# Altium footprint library TI Logic Gate.PcbLib: 60 footprints (part 4 of 4)
Each footprint in its own frame and in the unit in brackets; x right, y up, seen from the top. Pads: shape width x height; smd on the part's side, far side on the other; paste and mask are expansions set on the pad; w line width, h text height; cw(c..) or ccw(c..) is an arc to the next point about the centre after c.
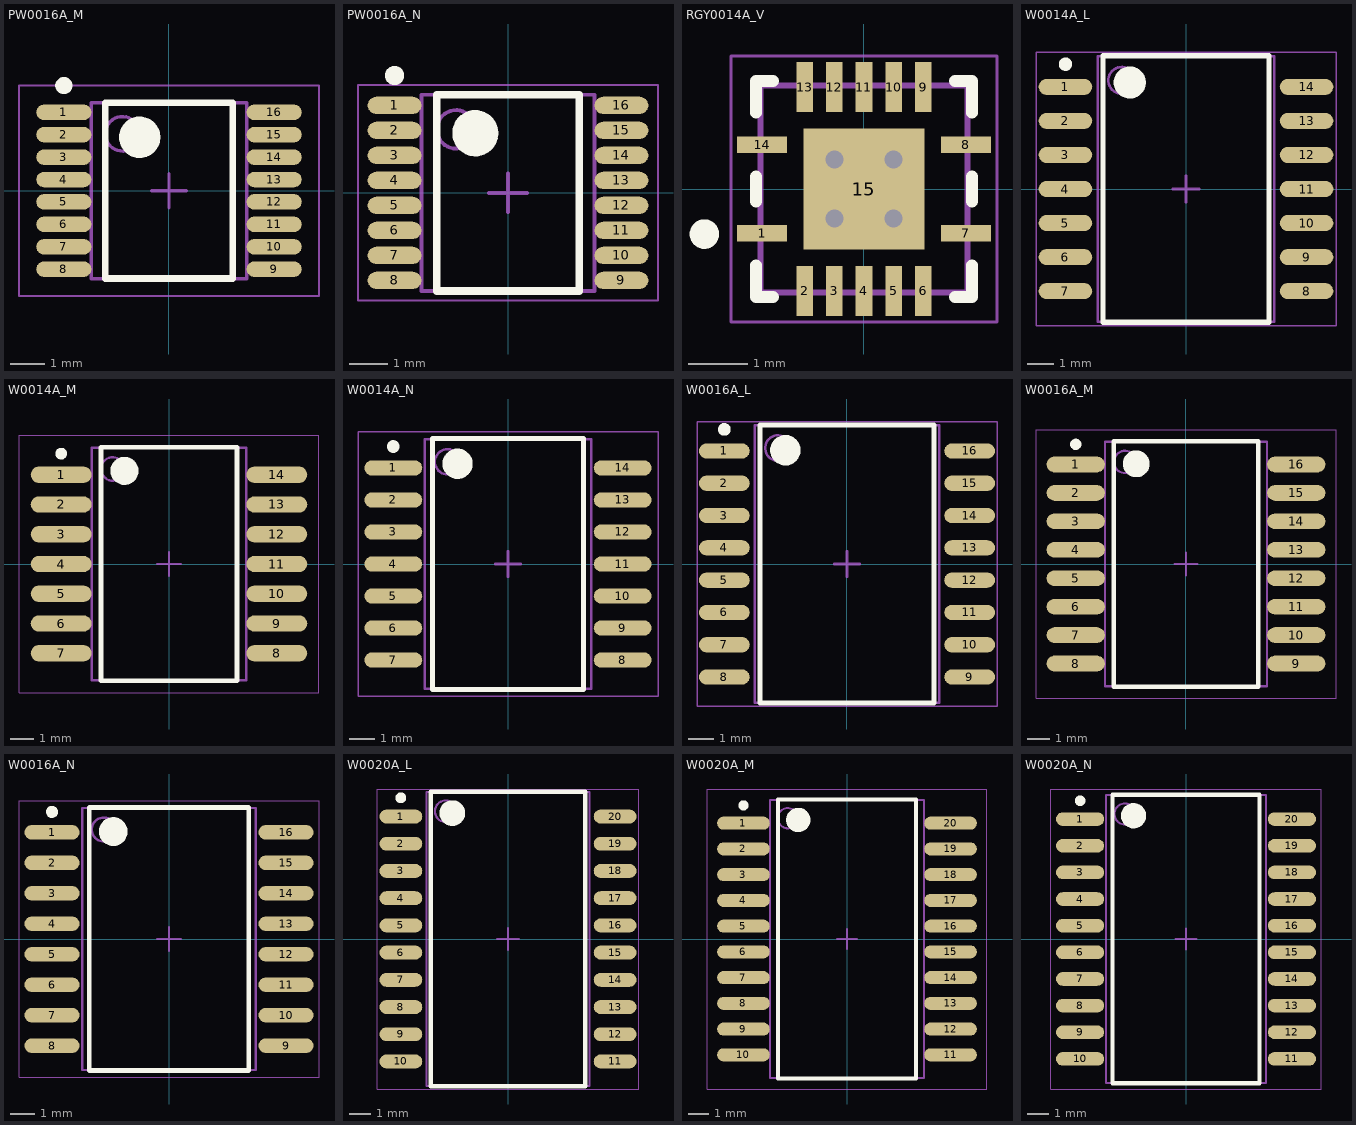
[diagram p3: the footprints below, top view; thin cyan lines are the x and y axes]

## PW0016A_M [mm] "SOP, 16-Leads, Body 5.1x4.5mm, Pitch 0.65mm, IPC Low Density"
height 1.2
pads (16):
  oval 1.6x0.45 smd: 1(-3.05,2.275) 2(-3.05,1.625) 3(-3.05,0.975) 4(-3.05,0.325) 5(-3.05,-0.325) 6(-3.05,-0.975) 7(-3.05,-1.625) 8(-3.05,-2.275) 9(3.05,-2.275) 10(3.05,-1.625) 11(3.05,-0.975) 12(3.05,-0.325) 13(3.05,0.325) 14(3.05,0.975) 15(3.05,1.625) 16(3.05,2.275)
Top Overlay:
  circle w0.6: c-0.85,1.55 r0.3
  circle w0.25: c-3.05,3.05 r0.125
  lines w0.2: -1.85,-2.55 1.85,-2.55 1.85,2.55 -1.85,2.55 -1.85,-2.55
Mechanical 13:
  circle w0.1: c-1.35,1.65 r0.5
  lines w0.1: -2.25,-2.55 2.25,-2.55 2.25,2.55 -2.25,2.55 -2.25,-2.55
Mechanical 15:
  lines w0.05: -4.35,-3.05 4.35,-3.05 4.35,3.05 -4.35,3.05 -4.35,-3.05
  lines w0.1: -0.5,0 0.5,0 ; 0,-0.5 0,0.5
3D body "PW0016AakaMTC16.stp": height 1.2, standoff 0, extent -3.21,-2.5 3.21,2.5

## PW0016A_N [mm] "SOP, 16-Leads, Body 5.1x4.5mm, Pitch 0.65mm, IPC Medium Density"
height 1.2
pads (16):
  oval 1.4x0.45 smd: 1(-2.95,2.275) 2(-2.95,1.625) 3(-2.95,0.975) 4(-2.95,0.325) 5(-2.95,-0.325) 6(-2.95,-0.975) 7(-2.95,-1.625) 8(-2.95,-2.275) 9(2.95,-2.275) 10(2.95,-1.625) 11(2.95,-0.975) 12(2.95,-0.325) 13(2.95,0.325) 14(2.95,0.975) 15(2.95,1.625) 16(2.95,2.275)
Top Overlay:
  circle w0.6: c-0.85,1.55 r0.3
  circle w0.25: c-2.95,3.05 r0.125
  lines w0.2: -1.85,-2.55 1.85,-2.55 1.85,2.55 -1.85,2.55 -1.85,-2.55
Mechanical 13:
  circle w0.1: c-1.35,1.65 r0.5
  lines w0.1: -2.25,-2.55 2.25,-2.55 2.25,2.55 -2.25,2.55 -2.25,-2.55
Mechanical 15:
  lines w0.05: -3.9,-2.8 3.9,-2.8 3.9,2.8 -3.9,2.8 -3.9,-2.8
  lines w0.1: -0.5,0 0.5,0 ; 0,-0.5 0,0.5
3D body "PW0016AakaMTC16.stp": height 1.2, standoff 0, extent -3.21,-2.5 3.21,2.5

## RGY0014A_V [mm] "QFN, 14-Leads, Body 3.5x3.5mm, Thermal Pad 2.05x2.05mm, TI Recommend"
height 1
pads (15):
  rect 0.85x0.28 smd paste-0.85 mask+0.07: 1(-1.725,-0.75) 7(1.725,-0.75) 8(1.725,0.75) 14(-1.725,0.75)
  rect 0.28x0.85 smd paste-0.85 mask+0.07: 2(-1,-1.725) 3(-0.5,-1.725) 4(0,-1.725) 5(0.5,-1.725) 6(1,-1.725) 9(1,1.725) 10(0.5,1.725) 11(0,1.725) 12(-0.5,1.725) 13(-1,1.725)
  rect 2.05x2.05 smd paste-2.05 mask+0.07: 15(0,0)
via 0.5,-0.5 diameter 0.5 hole 0.3
via 0.5,0.5 diameter 0.5 hole 0.3
via -0.5,0.5 diameter 0.5 hole 0.3
via -0.5,-0.5 diameter 0.5 hole 0.3
Top Overlay:
  circle w0.25: c-2.7,-0.762 r0.125
  lines w0.2: -1.825,-1.29 -1.825,-1.825 -1.54,-1.825 ; -1.825,-0.21 -1.825,0.21 ; -1.825,1.29 -1.825,1.825 -1.54,1.825 ; 1.54,-1.825 1.825,-1.825 1.825,-1.29 ; 1.54,1.825 1.825,1.825 1.825,1.29 ; 1.825,-0.21 1.825,0.21
Top Paste:
  rectangle: 0.15,-0.97 0.97,-0.15
  region: -0.15,-0.15 -0.97,-0.15 -0.97,-0.97 -0.15,-0.97
  region: -0.15,0.97 -0.97,0.97 -0.97,0.15 -0.15,0.15
  region: -2.125,-0.635 -2.125,-0.865 -1.325,-0.865 -1.325,-0.635
  region: -2.125,0.865 -2.125,0.635 -1.325,0.635 -1.325,0.865
  region: 2.125,0.635 2.125,0.865 1.325,0.865 1.325,0.635
  region: 2.125,-0.865 2.125,-0.635 1.325,-0.635 1.325,-0.865
  rectangle: 0.15,0.15 0.97,0.97
  rectangle: -1.115,1.325 -0.885,2.125
  rectangle: -0.615,1.325 -0.385,2.125
  rectangle: 0.885,1.325 1.115,2.125
  rectangle: -0.115,1.325 0.115,2.125
  rectangle: 0.385,1.325 0.615,2.125
  rectangle: 0.385,-2.125 0.615,-1.325
  rectangle: -0.115,-2.125 0.115,-1.325
  rectangle: 0.885,-2.125 1.115,-1.325
  rectangle: -0.615,-2.125 -0.385,-1.325
  rectangle: -1.115,-2.125 -0.885,-1.325
Mechanical 13:
  lines w0.1: -1.75,-1.75 -1.75,1.75 1.75,1.75 1.75,-1.75 -1.75,-1.75
Mechanical 15:
  lines w0.05: -2.25,-2.25 -2.25,2.25 2.25,2.25 2.25,-2.25 -2.25,-2.25
  lines w0.1: -0.5,0 0.5,0 ; 0,-0.5 0,0.5
3D body: height 1, standoff 0, extent -1.75,-1.75 1.75,1.75

## W0014A_L [mm] "CFP, 14-Leads, Body 9.91x6.6mm, Pitch 1.27mm, IPC High Density"
height 2.03
pads (14):
  oval 2x0.6 smd: 1(-4.5,3.81) 2(-4.5,2.54) 3(-4.5,1.27) 4(-4.5,0) 5(-4.5,-1.27) 6(-4.5,-2.54) 7(-4.5,-3.81) 8(4.5,-3.81) 9(4.5,-2.54) 10(4.5,-1.27) 11(4.5,0) 12(4.5,1.27) 13(4.5,2.54) 14(4.5,3.81)
Top Overlay:
  circle w0.6: c-2.1,3.975 r0.3
  circle w0.25: c-4.5,4.66 r0.125
  lines w0.2: -3.1,-4.975 -3.1,4.975 3.1,4.975 3.1,-4.975 -3.1,-4.975
Mechanical 13:
  circle w0.1: c-2.4,4.055 r0.5
  lines w0.1: -3.3,-4.955 -3.3,4.955 3.3,4.955 3.3,-4.955 -3.3,-4.955
Mechanical 15:
  lines w0.05: -5.6,-5.1 -5.6,5.1 5.6,5.1 5.6,-5.1 -5.6,-5.1
  lines w0.1: -0.5,0 0.5,0 ; 0,-0.5 0,0.5
3D body: height 2.03, standoff 0.1, extent -3.3,-4.955 3.3,4.955

## W0014A_M [mm] "CFP, 14-Leads, Body 9.91x6.6mm, Pitch 1.27mm, IPC Low Density"
height 2.03
pads (14):
  oval 2.6x0.7 smd: 1(-4.6,3.81) 2(-4.6,2.54) 3(-4.6,1.27) 4(-4.6,0) 5(-4.6,-1.27) 6(-4.6,-2.54) 7(-4.6,-3.81) 8(4.6,-3.81) 9(4.6,-2.54) 10(4.6,-1.27) 11(4.6,0) 12(4.6,1.27) 13(4.6,2.54) 14(4.6,3.81)
Top Overlay:
  circle w0.6: c-1.9,3.975 r0.3
  circle w0.25: c-4.6,4.71 r0.125
  lines w0.2: -2.9,-4.975 -2.9,4.975 2.9,4.975 2.9,-4.975 -2.9,-4.975
Mechanical 13:
  circle w0.1: c-2.4,4.055 r0.5
  lines w0.1: -3.3,-4.955 -3.3,4.955 3.3,4.955 3.3,-4.955 -3.3,-4.955
Mechanical 15:
  lines w0.05: -6.4,-5.5 -6.4,5.5 6.4,5.5 6.4,-5.5 -6.4,-5.5
  lines w0.1: -0.5,0 0.5,0 ; 0,-0.5 0,0.5
3D body: height 2.03, standoff 0.1, extent -3.3,-4.955 3.3,4.955

## W0014A_N [mm] "CFP, 14-Leads, Body 9.91x6.6mm, Pitch 1.27mm, IPC Medium Density"
height 2.03
pads (14):
  oval 2.3x0.6 smd: 1(-4.55,3.81) 2(-4.55,2.54) 3(-4.55,1.27) 4(-4.55,0) 5(-4.55,-1.27) 6(-4.55,-2.54) 7(-4.55,-3.81) 8(4.55,-3.81) 9(4.55,-2.54) 10(4.55,-1.27) 11(4.55,0) 12(4.55,1.27) 13(4.55,2.54) 14(4.55,3.81)
Top Overlay:
  circle w0.6: c-2,3.975 r0.3
  circle w0.25: c-4.55,4.66 r0.125
  lines w0.2: -3,-4.975 -3,4.975 3,4.975 3,-4.975 -3,-4.975
Mechanical 13:
  circle w0.1: c-2.4,4.055 r0.5
  lines w0.1: -3.3,-4.955 -3.3,4.955 3.3,4.955 3.3,-4.955 -3.3,-4.955
Mechanical 15:
  lines w0.05: -5.95,-5.25 -5.95,5.25 5.95,5.25 5.95,-5.25 -5.95,-5.25
  lines w0.1: -0.5,0 0.5,0 ; 0,-0.5 0,0.5
3D body: height 2.03, standoff 0.1, extent -3.3,-4.955 3.3,4.955

## W0016A_L [mm] "CFP, 16-Leads, Body 10.92x7.24mm, Pitch 1.27mm, IPC High Density"
height 2.03
pads (16):
  oval 2x0.6 smd: 1(-4.825,4.445) 2(-4.825,3.175) 3(-4.825,1.905) 4(-4.825,0.635) 5(-4.825,-0.635) 6(-4.825,-1.905) 7(-4.825,-3.175) 8(-4.825,-4.445) 9(4.825,-4.445) 10(4.825,-3.175) 11(4.825,-1.905) 12(4.825,-0.635) 13(4.825,0.635) 14(4.825,1.905) 15(4.825,3.175) 16(4.825,4.445)
Top Overlay:
  circle w0.6: c-2.425,4.475 r0.3
  circle w0.25: c-4.825,5.295 r0.125
  lines w0.2: -3.425,-5.475 -3.425,5.475 3.425,5.475 3.425,-5.475 -3.425,-5.475
Mechanical 13:
  circle w0.1: c-2.72,4.56 r0.5
  lines w0.1: -3.62,-5.46 -3.62,5.46 3.62,5.46 3.62,-5.46 -3.62,-5.46
Mechanical 15:
  lines w0.05: -5.9,-5.6 -5.9,5.6 5.9,5.6 5.9,-5.6 -5.9,-5.6
  lines w0.1: -0.5,0 0.5,0 ; 0,-0.5 0,0.5
3D body: height 2.03, standoff 0.1, extent -3.62,-5.46 3.62,5.46

## W0016A_M [mm] "CFP, 16-Leads, Body 10.92x7.24mm, Pitch 1.27mm, IPC Low Density"
height 2.03
pads (16):
  oval 2.6x0.7 smd: 1(-4.925,4.445) 2(-4.925,3.175) 3(-4.925,1.905) 4(-4.925,0.635) 5(-4.925,-0.635) 6(-4.925,-1.905) 7(-4.925,-3.175) 8(-4.925,-4.445) 9(4.925,-4.445) 10(4.925,-3.175) 11(4.925,-1.905) 12(4.925,-0.635) 13(4.925,0.635) 14(4.925,1.905) 15(4.925,3.175) 16(4.925,4.445)
Top Overlay:
  circle w0.6: c-2.225,4.475 r0.3
  circle w0.25: c-4.925,5.345 r0.125
  lines w0.2: -3.225,-5.475 -3.225,5.475 3.225,5.475 3.225,-5.475 -3.225,-5.475
Mechanical 13:
  circle w0.1: c-2.72,4.56 r0.5
  lines w0.1: -3.62,-5.46 -3.62,5.46 3.62,5.46 3.62,-5.46 -3.62,-5.46
Mechanical 15:
  lines w0.05: -6.7,-6 -6.7,6 6.7,6 6.7,-6 -6.7,-6
  lines w0.1: -0.5,0 0.5,0 ; 0,-0.5 0,0.5
3D body: height 2.03, standoff 0.1, extent -3.62,-5.46 3.62,5.46

## W0016A_N [mm] "CFP, 16-Leads, Body 10.92x7.24mm, Pitch 1.27mm, IPC Medium Density"
height 2.03
pads (16):
  oval 2.3x0.6 smd: 1(-4.875,4.445) 2(-4.875,3.175) 3(-4.875,1.905) 4(-4.875,0.635) 5(-4.875,-0.635) 6(-4.875,-1.905) 7(-4.875,-3.175) 8(-4.875,-4.445) 9(4.875,-4.445) 10(4.875,-3.175) 11(4.875,-1.905) 12(4.875,-0.635) 13(4.875,0.635) 14(4.875,1.905) 15(4.875,3.175) 16(4.875,4.445)
Top Overlay:
  circle w0.6: c-2.325,4.475 r0.3
  circle w0.25: c-4.875,5.295 r0.125
  lines w0.2: -3.325,-5.475 -3.325,5.475 3.325,5.475 3.325,-5.475 -3.325,-5.475
Mechanical 13:
  circle w0.1: c-2.72,4.56 r0.5
  lines w0.1: -3.62,-5.46 -3.62,5.46 3.62,5.46 3.62,-5.46 -3.62,-5.46
Mechanical 15:
  lines w0.05: -6.25,-5.75 -6.25,5.75 6.25,5.75 6.25,-5.75 -6.25,-5.75
  lines w0.1: -0.5,0 0.5,0 ; 0,-0.5 0,0.5
3D body: height 2.03, standoff 0.1, extent -3.62,-5.46 3.62,5.46

## W0020A_L [mm] "CFP, 20-Leads, Body 13.72x7.62mm, Pitch 1.27mm, IPC High Density"
height 2.45
pads (20):
  oval 2x0.65 smd: 1(-5,5.715) 2(-5,4.445) 3(-5,3.175) 4(-5,1.905) 5(-5,0.635) 6(-5,-0.635) 7(-5,-1.905) 8(-5,-3.175) 9(-5,-4.445) 10(-5,-5.715) 11(5,-5.715) 12(5,-4.445) 13(5,-3.175) 14(5,-1.905) 15(5,-0.635) 16(5,0.635) 17(5,1.905) 18(5,3.175) 19(5,4.445) 20(5,5.715)
Top Overlay:
  circle w0.6: c-2.6,5.875 r0.3
  circle w0.25: c-5,6.59 r0.125
  lines w0.2: -3.6,-6.875 -3.6,6.875 3.6,6.875 3.6,-6.875 -3.6,-6.875
Mechanical 13:
  circle w0.1: c-2.91,5.96 r0.5
  lines w0.1: -3.81,-6.86 -3.81,6.86 3.81,6.86 3.81,-6.86 -3.81,-6.86
Mechanical 15:
  lines w0.05: -6.1,-7 -6.1,7 6.1,7 6.1,-7 -6.1,-7
  lines w0.1: -0.5,0 0.5,0 ; 0,-0.5 0,0.5
3D body: height 2.45, standoff 0.1, extent -3.81,-6.86 3.81,6.86

## W0020A_M [mm] "CFP, 20-Leads, Body 13.72x7.62mm, Pitch 1.27mm, IPC Low Density"
height 2.45
pads (20):
  oval 2.6x0.65 smd: 1(-5.11,5.715) 2(-5.11,4.445) 3(-5.11,3.175) 4(-5.11,1.905) 5(-5.11,0.635) 6(-5.11,-0.635) 7(-5.11,-1.905) 8(-5.11,-3.175) 9(-5.11,-4.445) 10(-5.11,-5.715) 11(5.11,-5.715) 12(5.11,-4.445) 13(5.11,-3.175) 14(5.11,-1.905) 15(5.11,-0.635) 16(5.11,0.635) 17(5.11,1.905) 18(5.11,3.175) 19(5.11,4.445) 20(5.11,5.715)
Top Overlay:
  circle w0.6: c-2.4,5.875 r0.3
  circle w0.25: c-5.11,6.59 r0.125
  lines w0.2: -3.4,-6.875 -3.4,6.875 3.4,6.875 3.4,-6.875 -3.4,-6.875
Mechanical 13:
  circle w0.1: c-2.91,5.96 r0.5
  lines w0.1: -3.81,-6.86 -3.81,6.86 3.81,6.86 3.81,-6.86 -3.81,-6.86
Mechanical 15:
  lines w0.05: -6.9,-7.4 -6.9,7.4 6.9,7.4 6.9,-7.4 -6.9,-7.4
  lines w0.1: -0.5,0 0.5,0 ; 0,-0.5 0,0.5
3D body: height 2.45, standoff 0.1, extent -3.81,-6.86 3.81,6.86

## W0020A_N [mm] "CFP, 20-Leads, Body 13.72x7.62mm, Pitch 1.27mm, IPC Medium Density"
height 2.45
pads (20):
  oval 2.3x0.65 smd: 1(-5.05,5.715) 2(-5.05,4.445) 3(-5.05,3.175) 4(-5.05,1.905) 5(-5.05,0.635) 6(-5.05,-0.635) 7(-5.05,-1.905) 8(-5.05,-3.175) 9(-5.05,-4.445) 10(-5.05,-5.715) 11(5.05,-5.715) 12(5.05,-4.445) 13(5.05,-3.175) 14(5.05,-1.905) 15(5.05,-0.635) 16(5.05,0.635) 17(5.05,1.905) 18(5.05,3.175) 19(5.05,4.445) 20(5.05,5.715)
Top Overlay:
  circle w0.6: c-2.5,5.875 r0.3
  circle w0.25: c-5.05,6.59 r0.125
  lines w0.2: -3.5,-6.875 -3.5,6.875 3.5,6.875 3.5,-6.875 -3.5,-6.875
Mechanical 13:
  circle w0.1: c-2.91,5.96 r0.5
  lines w0.1: -3.81,-6.86 -3.81,6.86 3.81,6.86 3.81,-6.86 -3.81,-6.86
Mechanical 15:
  lines w0.05: -6.45,-7.15 -6.45,7.15 6.45,7.15 6.45,-7.15 -6.45,-7.15
  lines w0.1: -0.5,0 0.5,0 ; 0,-0.5 0,0.5
3D body: height 2.45, standoff 0.1, extent -3.81,-6.86 3.81,6.86